# Altium footprint library CONN-SPE_MOLEX_43045-0812.PcbLib: 1 footprints
Each footprint in its own frame and in the unit in brackets; x right, y up, seen from the top. Pads: shape width x height; smd on the part's side, far side on the other; paste and mask are expansions set on the pad; w line width, h text height; cw(c..) or ccw(c..) is an arc to the next point about the centre after c.
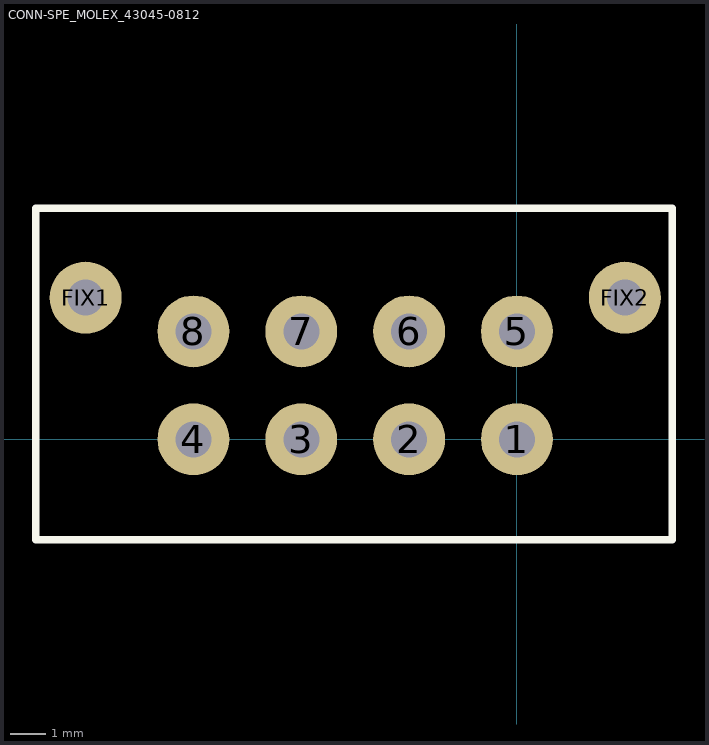
[diagram p0: the footprint, top view; thin cyan lines are the x and y axes]

## CONN-SPE_MOLEX_43045-0812 [mm]
pads (10):
  round 2 hole 1: 1(0,0) 2(-3,0) 3(-6,0) 4(-9,0) 5(0,3) 6(-3,3) 7(-6,3) 8(-9,3) FIX1(-12,3.94) FIX2(3,3.94)
Top Overlay:
  lines w0.2: -13.386,-2.794 -13.386,6.426 4.318,6.426 4.318,-2.794 -12.954,-2.794 -13.386,-2.794
3D body: height 9.95, standoff -3.14, extent -12.573,-2.455 3.577,6.315